# EAGLE library part AUIRS21281S (library International_Rectifier_By_element14_Batch_1)
Over Current Protected Single Channel Driver
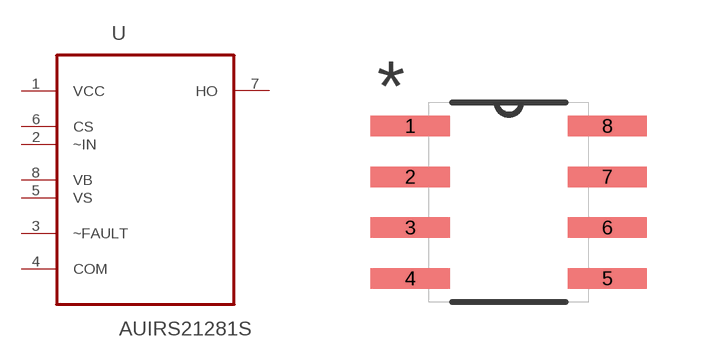
[diagram p11: symbol with the pads of SOIC127P600X175-8N; footprint SOIC127P600X175-8N]

Designator prefix U

## AUIRS21281S (MPN: AUIRS21281S; OC_FARNELL: 1866054; OC_NEWARK: 39T4036; PACKAGE: SOIC-8; SUPPLIER: INTERNATIONAL RECTIFIER)  [SOIC127P600X175-8N]
1  VCC  pwr
2  ~IN  in
3  ~FAULT  in
4  COM  pas
5  VS  in
6  CS  in
7  HO  out
8  VB  in

## Footprint SOIC127P600X175-8N (pad centres in mm)
smd 1.981 x 0.508: 1 -2.464,1.905; 2 -2.464,0.635; 3 -2.464,-0.635; 4 -2.464,-1.905; 5 2.464,-1.905; 6 2.464,-0.635; 7 2.464,0.635; 8 2.464,1.905